# EAGLE library part MIDI-CHIP (library BadassMIDI)
Footprint for BadassMIDI MIDI CHIP, roxxxtar.com/badassmidi-midi-chip
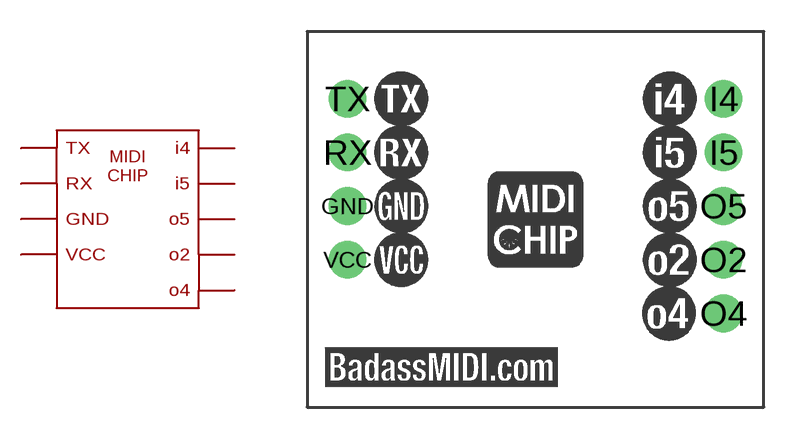
[diagram p0: symbol with the pads of MIDI-CHIP; footprint MIDI-CHIP]

Designator prefix U

## MIDI-CHIP  [MIDI-CHIP]
GND  GND
I4  I4
I5  I5
O2  O2
O4  O4
O5  O5
RX  RX
TX  TX
VCC  VCC

## Footprint MIDI-CHIP (pad centres in mm)
drill 0.965 pad 1.778: GND -8.89,0.635; I4 8.89,5.715; I5 8.89,3.175; O2 8.89,-1.905; O4 8.89,-4.445; O5 8.89,0.635; RX -8.89,3.175; TX -8.89,5.715; VCC -8.89,-1.905